# EAGLE library part LS19 (library LS10Series)
LS10 Series Switch Features Eliminates switch bounce Utilizes Adsptive NoBounce technology High level of noise immunity Eliminates < 20 ms noise spikes Low impednce 25 mA totem pole output/channel May be used in 2-position toggle switch On/Off applications General Description The LogiSwitch LS10 Series of High Noise Immunity Debouncer/Noise Filter ICs was designed for trouble-free use in the most severe electrically hostile environments. The LS10 Series of LogiSwitch debouncer/noise filter chips features low-impedance 25 mA totem-pole outputs for each channel. Outputs and inputs are of the same polarity and may be selected for use as active high or active low. The LS10 Series utilizes LogiSwitch’s proprietary NoBounce™ technology resulting in a high level of noise immunity. Noise spikes of less than 20 ms duration are prohibited from starting or terminating a cycle. The input of each channel includes an internal pull-up resistor so the SPST interface requires just one pin (NO or COM) tied to ground and the other to a channel input of the device. All outputs are delayed for a period of 20 ms + bounce time on both activation and release regardless of the bounce duration. LogiSwitch URL: http://www.logiswitch.com/
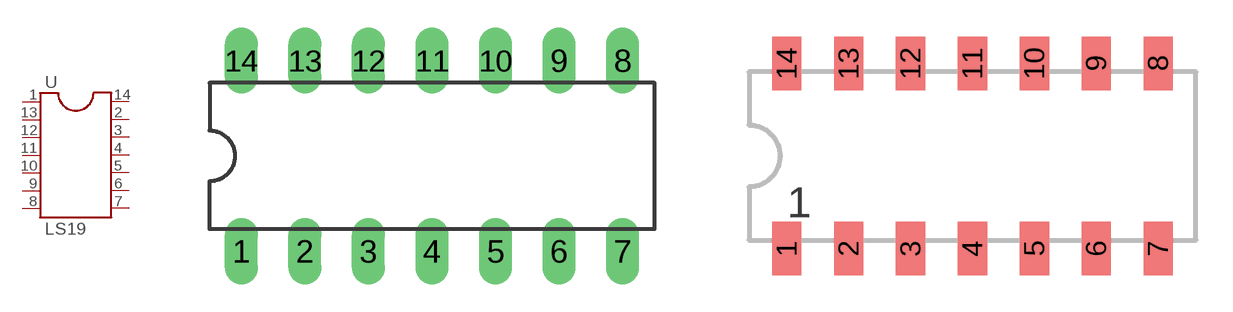
[diagram p1: symbol with the pads of DIL14; footprints DIL14, SO14]

Designator prefix -

## LS19-P  [DIL14]
1  VDD  pas
2  OUT0  pas
3  OUT1  pas
4  OUT2  pas
5  OUT3  pas
6  OUT4  pas
7  OUT5  pas
8  SW5  pas
9  SW4  pas
10  SW3  pas
11  SW2  pas
12  SW1  pas
13  SW0  pas
14  VSS  pas

## LS19-S  [SO14]
1  VDD  pas
2  SW0  pas
3  SW1  pas
4  SW2  pas
5  SW3  pas
6  SW4  pas
7  SW5  pas
8  OUT5  pas
9  OUT4  pas
10  OUT3  pas
11  OUT2  pas
12  OUT1  pas
13  OUT0  pas
14  VSS  pas

## Footprint DIL14 (pad centres in mm)
Dual In Line Package
drill 0.813 long: 1 -7.62,-3.81; 2 -5.08,-3.81; 3 -2.54,-3.81; 4 0,-3.81; 5 2.54,-3.81; 6 5.08,-3.81; 7 7.62,-3.81; 8 7.62,3.81; 9 5.08,3.81; 10 2.54,3.81; 11 0,3.81; 12 -2.54,3.81; 13 -5.08,3.81; 14 -7.62,3.81

## Footprint SO14 (pad centres in mm)
SMD DIL14 dual in line package
smd 1.2 x 2.2: 1 -7.62,-3.8; 2 -5.08,-3.8; 3 -2.54,-3.8; 4 0,-3.8; 5 2.54,-3.8; 6 5.08,-3.8; 7 7.62,-3.8; 8 7.62,3.8; 9 5.08,3.8; 10 2.54,3.8; 11 0,3.8; 12 -2.54,3.8; 13 -5.08,3.8; 14 -7.62,3.8